# EAGLE library part ESP32-DEVKITC-VE (library UNIT_Biblioteca_Modulos)
- ESP32-WROVER-E Transceiver; 802.11 b/g/n (Wi-Fi, WiFi, WLAN), Bluetooth Smart Ready 4.x Dual Mode 2.4GHz Evaluation Board Source: Datasheet <https://docs.espressif.com/projects/esp-idf/en/latest/esp32/hw-reference/esp32/get-started-devkitc.html>
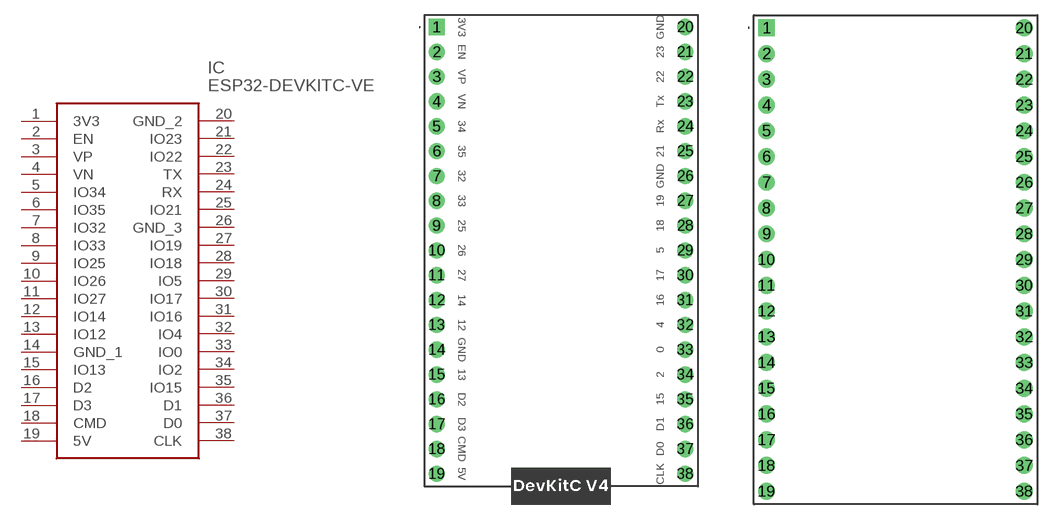
[diagram p8: symbol with the pads of ESP32DEVKITCVE; footprints ESP32DEVKITCVE, ESP32DEVKITCVE_WITHOUT_NAME]

Designator prefix IC

## ESP32-DEVKITC-VE (CLASS: Modules; DESCRIPTION: ESP32 DevKitC V4; MANUFACTURER_NAME: Espressif Systems; MANUFACTURER_PART_NUMBER: ESP32-DEVKITC-VE; VENDOR_PART_NUMBER: AR1580; VENDOR_PRICE-STOCK: https://uelectronics.com/producto/esp32-devkitc-v4-esp32-wroom-32d-32u/)  [ESP32DEVKITCVE]
1  3V3
2  EN
3  VP
4  VN
5  IO34
6  IO35
7  IO32
8  IO33
9  IO25
10  IO26
11  IO27
12  IO14
13  IO12
14  GND_1
15  IO13
16  D2
17  D3
18  CMD
19  5V
20  GND_2
21  IO23
22  IO22
23  TX
24  RX
25  IO21
26  GND_3
27  IO19
28  IO18
29  IO5
30  IO17
31  IO16
32  IO4
33  IO0
34  IO2
35  IO15
36  D1
37  D0
38  CLK

## ESP32-DEVKITC-VEWITHOUT_NAME  [ESP32DEVKITCVE_WITHOUT_NAME]
Pads as for ESP32DEVKITCVE

## Footprint ESP32DEVKITCVE (pad centres in mm)
ESP32-DEVKITC-VE-6
drill 1 pad 1.665 square: 1 0,0
drill 1 pad 1.665: 2 0,-2.54; 3 0,-5.08; 4 0,-7.62; 5 0,-10.16; 6 0,-12.7; 7 0,-15.24; 8 0,-17.78; 9 0,-20.32; 10 0,-22.86; 11 0,-25.4; 12 0,-27.94; 13 0,-30.48; 14 0,-33.02; 15 0,-35.56; 16 0,-38.1; 17 0,-40.64; 18 0,-43.18; 19 0,-45.72; 20 25.4,0; 21 25.4,-2.54; 22 25.4,-5.08; 23 25.4,-7.62; 24 25.4,-10.16; 25 25.4,-12.7; 26 25.4,-15.24; 27 25.4,-17.78; 28 25.4,-20.32; 29 25.4,-22.86; 30 25.4,-25.4; 31 25.4,-27.94; 32 25.4,-30.48; 33 25.4,-33.02; 34 25.4,-35.56; 35 25.4,-38.1; 36 25.4,-40.64; 37 25.4,-43.18; 38 25.4,-45.72

## Footprint ESP32DEVKITCVE_WITHOUT_NAME (pad centres in mm)
ESP32-DEVKITC-VE-6
drill 1 pad 1.665 square: 1 0,0
drill 1 pad 1.665: 2 0,-2.54; 3 0,-5.08; 4 0,-7.62; 5 0,-10.16; 6 0,-12.7; 7 0,-15.24; 8 0,-17.78; 9 0,-20.32; 10 0,-22.86; 11 0,-25.4; 12 0,-27.94; 13 0,-30.48; 14 0,-33.02; 15 0,-35.56; 16 0,-38.1; 17 0,-40.64; 18 0,-43.18; 19 0,-45.72; 20 25.4,0; 21 25.4,-2.54; 22 25.4,-5.08; 23 25.4,-7.62; 24 25.4,-10.16; 25 25.4,-12.7; 26 25.4,-15.24; 27 25.4,-17.78; 28 25.4,-20.32; 29 25.4,-22.86; 30 25.4,-25.4; 31 25.4,-27.94; 32 25.4,-30.48; 33 25.4,-33.02; 34 25.4,-35.56; 35 25.4,-38.1; 36 25.4,-40.64; 37 25.4,-43.18; 38 25.4,-45.72